# Altium footprint library HV9006_MEASUREBOARD.PCBLIB: 292 footprints (part 19 of 19)
Each footprint in its own frame and in the unit in brackets; x right, y up, seen from the top. Pads: shape width x height; smd on the part's side, far side on the other; paste and mask are expansions set on the pad; w line width, h text height; cw(c..) or ccw(c..) is an arc to the next point about the centre after c.
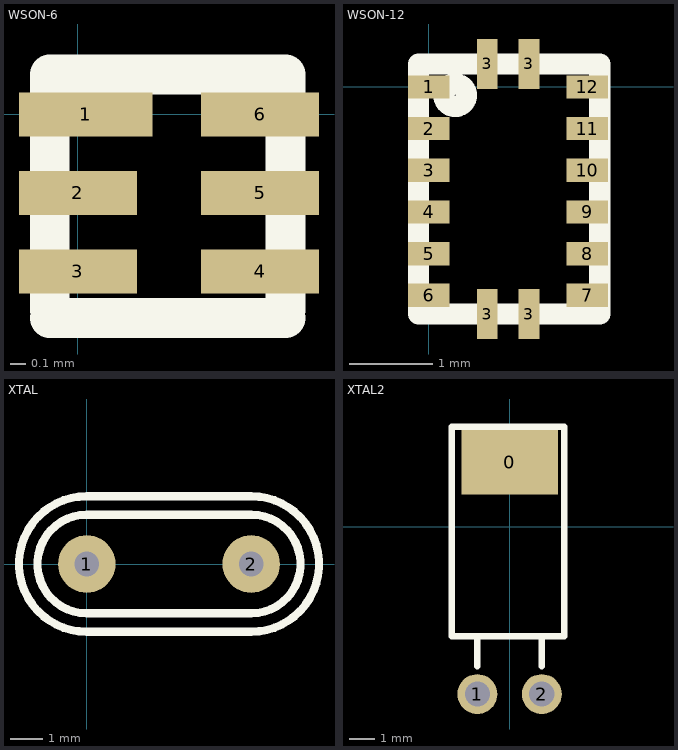
[diagram p18: the footprints below, top view; thin cyan lines are the x and y axes]

## WSON-6 [mm]
pads (6):
  rect 0.85x0.28 smd: 1(0.051,0)
  rect 0.75x0.28 smd: 2(0,-0.5) 3(0,-1) 4(1.16,-1) 5(1.16,-0.5) 6(1.16,0)
Top Overlay:
  lines w0.254: -0.179,-1.295 1.321,-1.295 ; -0.179,-1.246 -0.179,0.254 1.321,0.254 1.321,-1.246

## WSON-12 [mm]
pads (16):
  rect 0.5x0.28 smd: 1(0,0) 2(0,-0.5) 3(0,-1) 4(0,-1.5) 5(0,-2) 6(0,-2.5) 7(1.9,-2.5) 8(1.9,-2) 9(1.9,-1.5) 10(1.9,-1) 11(1.9,-0.5) 12(1.9,0)
  rect 0.25x0.6 smd: 3(0.7,-2.725) 3(0.7,0.275) 3(1.2,-2.725) 3(1.2,0.275)
Top Overlay:
  circle w0.254: c0.315,-0.1 r0.135
  lines w0.254: -0.125,-2.725 -0.125,0.275 2.05,0.275 2.05,-2.725 -0.1,-2.725

## XTAL [mil]
pads (2):
  round 70 hole 30: 1(0,0) 2(200,0)
Top Overlay:
  lines w10: 0,-82.46 cw(c0,0) 0,82.46 200,82.46 cw(c200,0) 200,-82.46 0,-82.46 ; 0,-60 cw(c0,0) 0,60 200,60 cw(c200,0) 200,-60 0,-60

## XTAL2 [mil]
pads (3):
  rect 150x100 smd: 0(0,100)
  round 62 hole 39: 1(-50,-260) 2(50,-260)
Top Overlay:
  lines w10: -50,-216.54 -50,-170 ; 50,-216.54 50,-170 ; -90,-170 -90,155 85,155 85,-170 -90,-170